# Altium schematic symbol library CN HDR 15POS SMD 1.5MM.SchLib: 1 symbol
Pins are listed as number, name and electrical type; pins without a type are passive.

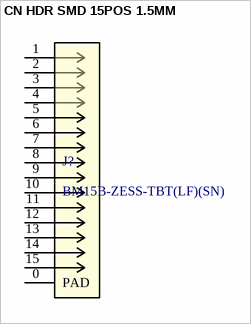
[diagram p0: symbol CN HDR SMD 15POS 1.5MM]

## CN HDR SMD 15POS 1.5MM
designator J?, comment BM15B-ZESS-TBT(LF)(SN)
Connector Header Surface Mount 15 position 0.059" (1.50mm)
pins: 0 PAD, 1, 2, 3, 4, 5, 6, 7, 8, 9, 10, 11, 12, 13, 14, 15